# EAGLE library part SMF05C (library e-Lib-DiscreteSemi)
SMF05C - Diode TVS - 5-Line Transient Voltage Suppressor This 5−line voltage transient suppressor array is designed for application requiring transient voltage protection capability. It is intended for use in over−transient voltage and ESD sensitive equipment such as computers, printers, automotive electronics, networking communication and other applications. Features Protects up to 5−Line in a Single SC−88 Package Peak Power Dissipation − 100 W (8 x 20 s Waveform) ESD Rating of Class 3B (Exceeding 8 kV) per Human Body Model and Class C (Exceeding 400 V) per Machine Model. Compliance with IEC 61000−4−2 (ESD) 15 kV (Air), 8 kV (Contact) Flammability Rating of UL 94 V−0 SZ Prefix for Automotive and Other Applications Requiring Unique Site and Control Change Requirements; AEC−Q101 Qualified and PPAP Capable Datasheet: SMF05C <https://datasheet.lcsc.com/szlcsc/2005211234_TECH-PUBLIC-SMF05C_C558425.pdf>
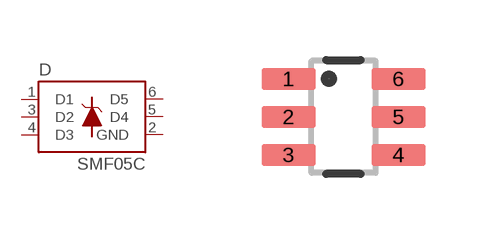
[diagram p1: symbol with the pads of SOT-23-6; footprint SOT-23-6]

Designator prefix D

## SMF05C  [SOT-23-6]
1  D1
2  GND
3  D2
4  D3
5  D4
6  D5

## Footprint SOT-23-6 (pad centres in mm)
smd 1.35 x 0.55: 1 -1.375,0.95; 2 -1.375,0; 3 -1.375,-0.95; 4 1.375,-0.95; 5 1.375,0; 6 1.375,0.95